# EAGLE library part SL-1X8G_SMD (library 1_USER)
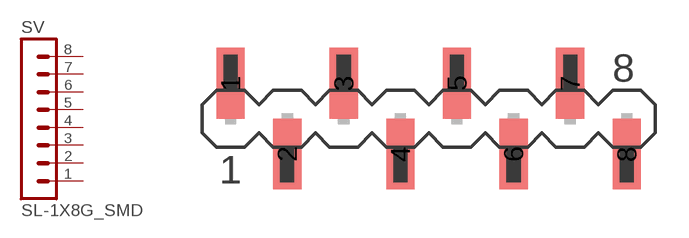
[diagram p0: symbol with the pads of SL-1X8G_SMD; footprint SL-1X8G_SMD]

Designator prefix SV

## SL-1X8G_SMD  [SL-1X8G_SMD]
1  1  pas
2  2  pas
3  3  pas
4  4  pas
5  5  pas
6  6  pas
7  7  pas
8  8  pas

## Footprint SL-1X8G_SMD (pad centres in mm)
smd 1.27 x 3.17: 1 -8.89,1.587; 2 -6.35,-1.587; 3 -3.81,1.587; 4 -1.27,-1.587; 5 1.27,1.587; 6 3.81,-1.587; 7 6.35,1.587; 8 8.89,-1.587